# Altium footprint library con-subd.PCBLIB: 94 footprints (part 6 of 6)
Each footprint in its own frame and in the unit in brackets; x right, y up, seen from the top. Pads: shape width x height; smd on the part's side, far side on the other; paste and mask are expansions set on the pad; w line width, h text height; cw(c..) or ccw(c..) is an arc to the next point about the centre after c.
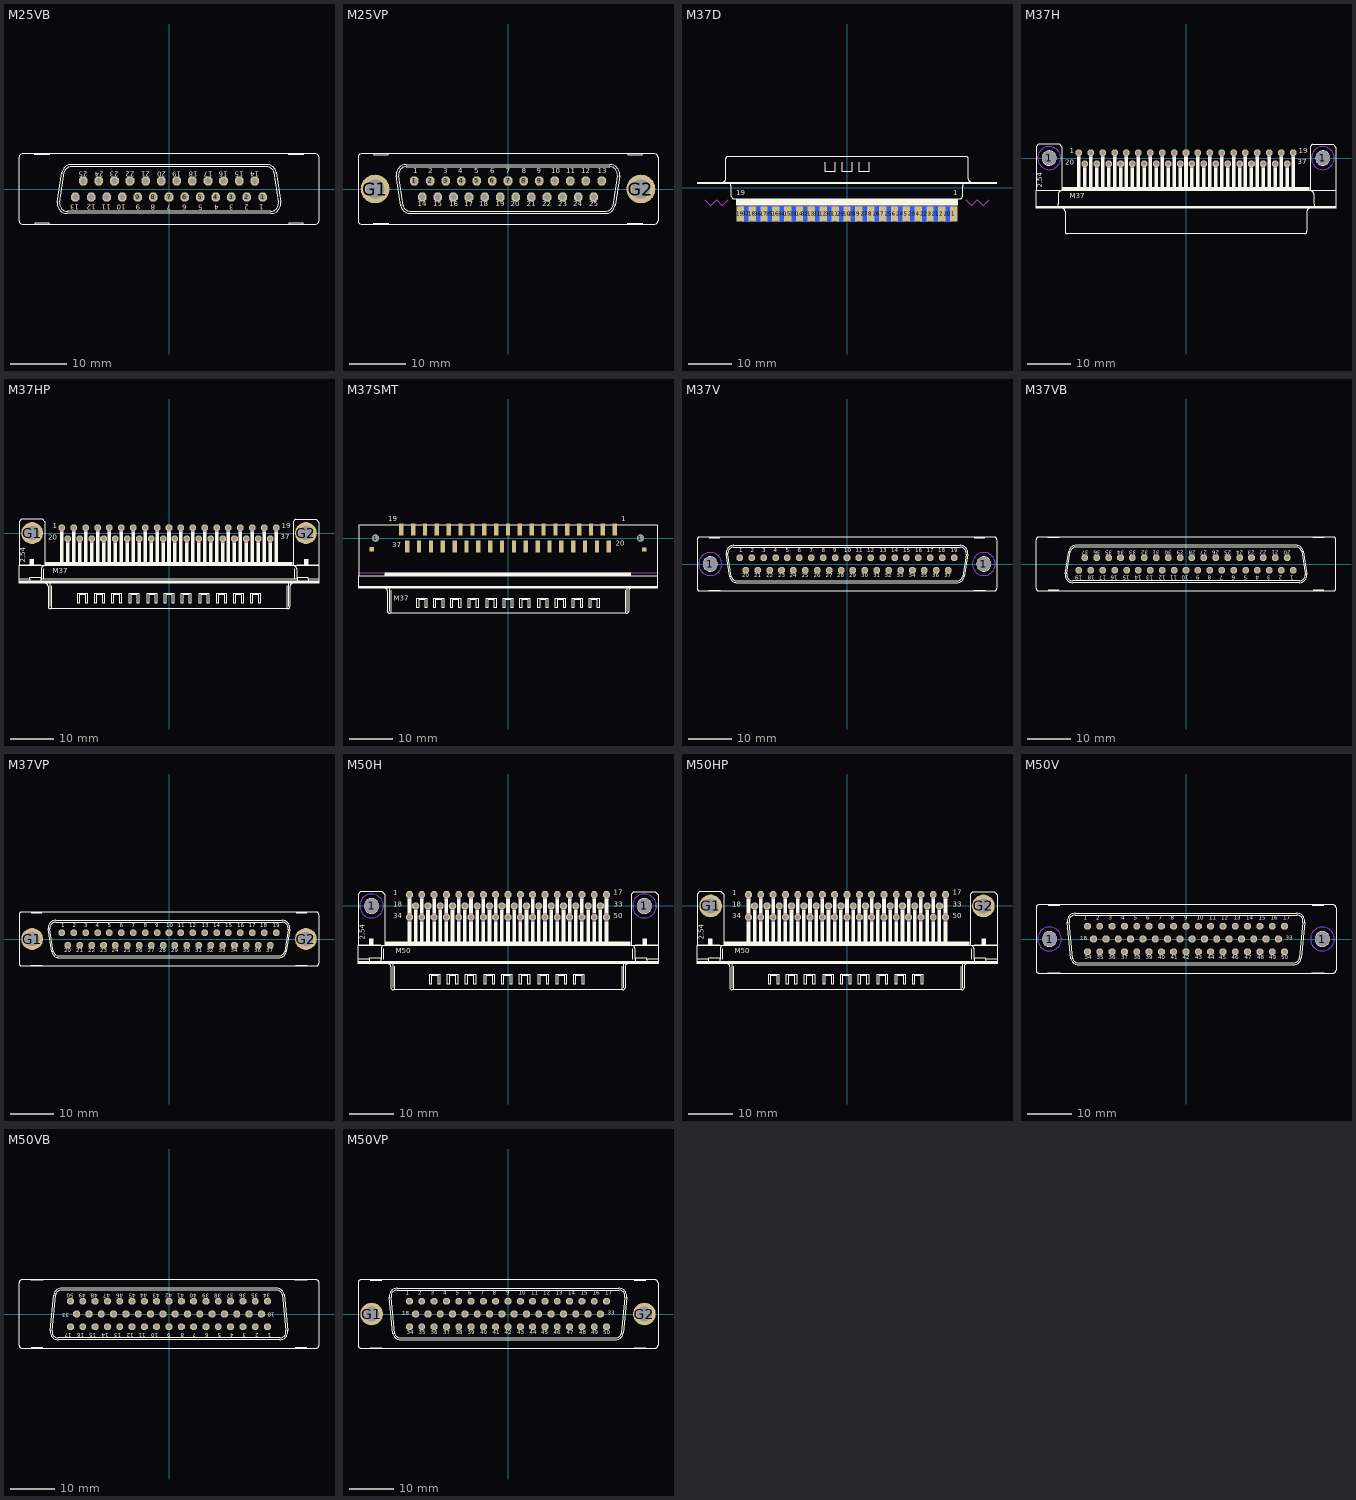
[diagram p5: the footprints below, top view; thin cyan lines are the x and y axes]

## M25VB [mil]
pads (25):
  oct 60x60 hole 40: 1(652,-56) 2(543,-56) 3(435,-56) 4(326,-56) 5(217,-56) 6(109,-56) 7(0,-56) 8(-109,-56) 9(-217,-56) 10(-326,-56) 11(-435,-56) 12(-543,-56) 13(-652,-56) 14(598,56) 15(489,56) 16(380,56) 17(272,56) 18(163,56) 19(54,56) 20(-54,56) 21(-163,56) 22(-272,56) 23(-380,56) 24(-489,56) 25(-598,56)
Top Overlay:
  lines w6: -777,-91 -747,113 ; -776.69,-88.67 ccw(c-710,-101.99) -710,-170 710,-170 ccw(c710,-102) 776.68,-88.67 ; -762,-91 -731,115 ; -761.79,-90.7 ccw(c-710,-101.99) -710,-155 710,-155 ccw(c710,-102) 761.97,-91.61 ; -747.89,105.7 cw(c-679.99,102) -680,170 680,170 cw(c680,102) 747.4,110.99 ; -731.52,114.37 cw(c-679.99,102) -680,155 680,155 cw(c680,101.99) 731.3,115.33 ; 731,116 762,-92 ; 746,116 777,-92 ; -935,-245 -1020,-245 cw(c-1020,-220) -1045,-220 -1045,220 cw(c-1020,220) -1020,245 -935,245 ; -935,-245 -935,-240 -835,-240 -835,-245 ; -935,-245 -835,-245 ; -935,245 -835,245 ; -935,245 -935,240 -835,240 -835,245 ; -835,-245 835,-245 ; -835,245 835,245 ; 835,-245 835,-240 935,-240 935,-245 ; 835,-245 935,-245 ; 835,245 935,245 ; 835,245 835,240 935,240 935,245 ; 935,-245 1020,-245 ccw(c1020,-220) 1045,-220 1045,220 ccw(c1020,220) 1020,245 935,245
  text "1" at 660,-95 h60.45
  text "2" at 555,-95 h60.45
  text "3" at 450,-95 h60.45
  text "4" at 345,-95 h60.45
  text "5" at 235,-95 h60.45
  text "6" at 125,-95 h60.45
  text "7" at 15,-95 h60.45
  text "8" at -95,-95 h60.45
  text "9" at -200,-95 h60.45
  text "10" at -300,-95 h60.45
  text "11" at -405,-95 h60.45
  text "12" at -510,-95 h60.45
  text "13" at -625,-95 h60.45
  text "14" at 630,135 h60.45
  text "15" at 520,135 h60.45
  text "16" at 410,135 h60.45
  text "17" at 305,135 h60.45
  text "18" at 200,135 h60.45
  text "19" at 85,135 h60.45
  text "20" at -20,135 h60.45
  text "21" at -130,135 h60.45
  text "22" at -240,135 h60.45
  text "23" at -350,135 h60.45
  text "24" at -455,135 h60.45
  text "25" at -565,135 h60.45
Mechanical 16:
  circle w16: c109,-56 r10
  circle w16: c163,56 r10
  circle w16: c217,-56 r10
  circle w16: c0,-56 r10
  circle w16: c54,56 r10
  circle w16: c-54,56 r10
  circle w16: c-109,-56 r10
  circle w16: c-217,-56 r10
  circle w16: c-163,56 r10
  circle w16: c-272,56 r10
  circle w16: c-326,-56 r10
  circle w16: c-380,56 r10
  circle w16: c-435,-56 r10
  circle w16: c-489,56 r10
  circle w16: c-543,-56 r10
  circle w16: c-652,-56 r10
  circle w16: c-598,56 r10
  circle w16: c326,-56 r10
  circle w16: c272,56 r10
  circle w16: c380,56 r10
  circle w16: c435,-56 r10
  circle w16: c543,-56 r10
  circle w16: c652,-56 r10
  circle w16: c489,56 r10
  circle w16: c598,56 r10

## M25VP [mil]
pads (27):
  oct 60x60 hole 40: 1(-652,56) 2(-543,56) 3(-435,56) 4(-326,56) 5(-217,56) 6(-109,56) 7(0,56) 8(109,56) 9(217,56) 10(326,56) 11(435,56) 12(543,56) 13(652,56) 14(-598,-56) 15(-489,-56) 16(-380,-56) 17(-272,-56) 18(-163,-56) 19(-54,-56) 20(54,-56) 21(163,-56) 22(272,-56) 23(380,-56) 24(489,-56) 25(598,-56)
  round 200 hole 130: G1(-926,0) G2(926,0)
Top Overlay:
  circle w6: c-926,-1 r65
  circle w6: c926,0 r65
  lines w6: -777,92 -746,-116 ; -776.68,88.67 cw(c-710,102) -710,170 710,170 cw(c710,101.99) 776.69,88.67 ; -762,92 -731,-116 ; -761.97,91.61 cw(c-710,102) -710,155 710,155 cw(c710,101.99) 761.79,90.7 ; -747.4,-110.99 ccw(c-680,-102) -680,-170 680,-170 ccw(c679.99,-102) 747.89,-105.7 ; -731.3,-115.33 ccw(c-680,-101.99) -680,-155 680,-155 ccw(c679.99,-102) 731.52,-114.37 ; 731,-115 762,91 ; 747,-113 777,91 ; -935,-245 -935,-240 -835,-240 -835,-245 ; -935,-245 -835,-245 ; -935,-245 -1020,-245 cw(c-1020,-220) -1045,-220 -1045,220 cw(c-1020,220) -1020,245 -935,245 ; -935,245 -935,240 -835,240 -835,245 ; -935,245 -835,245 ; -835,-245 835,-245 ; -835,245 835,245 ; 835,-245 835,-240 935,-240 935,-245 ; 835,-245 935,-245 ; 835,245 835,240 935,240 935,245 ; 835,245 935,245 ; 935,-245 1020,-245 ccw(c1020,-220) 1045,-220 1045,220 ccw(c1020,220) 1020,245 935,245
  text "1" at -660,95 h60.45
  text "2" at -555,95 h60.45
  text "3" at -450,95 h60.45
  text "4" at -345,95 h60.45
  text "5" at -235,95 h60.45
  text "6" at -125,95 h60.45
  text "7" at -15,95 h60.45
  text "8" at 95,95 h60.45
  text "9" at 200,95 h60.45
  text "10" at 300,95 h60.45
  text "11" at 405,95 h60.45
  text "12" at 510,95 h60.45
  text "13" at 625,95 h60.45
  text "14" at -630,-135 h60.45
  text "15" at -520,-135 h60.45
  text "16" at -410,-135 h60.45
  text "17" at -305,-135 h60.45
  text "18" at -200,-135 h60.45
  text "19" at -85,-135 h60.45
  text "20" at 20,-135 h60.45
  text "21" at 130,-135 h60.45
  text "22" at 240,-135 h60.45
  text "23" at 350,-135 h60.45
  text "24" at 455,-135 h60.45
  text "25" at 565,-135 h60.45
Mechanical 16:
  circle w16: c-109,56 r10
  circle w16: c-163,-56 r10
  circle w16: c-217,56 r10
  circle w16: c0,56 r10
  circle w16: c-54,-56 r10
  circle w16: c54,-56 r10
  circle w16: c109,56 r10
  circle w16: c217,56 r10
  circle w16: c163,-56 r10
  circle w16: c272,-56 r10
  circle w16: c326,56 r10
  circle w16: c380,-56 r10
  circle w16: c435,56 r10
  circle w16: c489,-56 r10
  circle w16: c543,56 r10
  circle w16: c652,56 r10
  circle w16: c598,-56 r10
  circle w16: c-326,56 r10
  circle w16: c-272,-56 r10
  circle w16: c-380,-56 r10
  circle w16: c-435,56 r10
  circle w16: c-543,56 r10
  circle w16: c-652,56 r10
  circle w16: c-489,-56 r10
  circle w16: c-598,-56 r10

## M37D [mil]
pads (37):
  rect 66.93x137.8 smd: 1(972.01,-237.99) 2(864.01,-237.98) 3(755.99,-237.98) 4(648.01,-237.98) 5(540,-237.99) 6(431.99,-237.98) 7(324.01,-237.98) 8(215.99,-237.98) 9(108.01,-237.98) 10(0,-237.99) 11(-108.01,-237.98) 12(-215.99,-237.98) 13(-324.01,-237.98) 14(-431.99,-237.98) 15(-540,-237.99) 16(-648.01,-237.98) 17(-755.99,-237.98) 18(-864.01,-237.98) 19(-972.01,-237.99)
  rect 66.93x137.8 smd far side: 20(918,-238) 21(810,-238) 22(702,-238) 23(594,-238) 24(486,-238) 25(378,-238) 26(270,-238) 27(162,-238) 28(54,-238) 29(-54,-238) 30(-162,-238) 31(-270,-238) 32(-378,-238) 33(-486,-238) 34(-594,-238) 35(-702,-238) 36(-810,-238) 37(-918,-238)
Top Overlay:
  rectangle: -1366.14,35.43 1366.14,55.12
  rectangle: -1011.81,-161.42 1011.81,-98.43
  lines w6: -1129.02,55.55 ccw(c-1129.02,80.55) -1104.02,80.55 -1104.02,265.55 cw(c-1084.02,265.55) -1084.02,285.55 1084.02,285.55 cw(c1084.02,265.55) 1104.02,265.55 1104.02,80.55 ccw(c1129.02,80.55) 1129.02,55.55 ; -1058,40 -1058,20 -1053,20 -1053,-75 ccw(c-1028,-75) -1028,-100 ; -1028.74,-100 1028.74,-100 ; -200,234.45 -200,144.45 -110,144.45 -110,234.45 ; -45,234.45 -45,144.45 45,144.45 45,234.45 ; 110,234.45 110,144.45 200,144.45 200,234.45 ; 1028,-100 ccw(c1028,-75) 1053,-75 1053,20 1058,20 1058,40
  text "1" at 966.74,-85.77 h77.5
  text "19" at -1007.49,-85.77 h77.5
Bottom Overlay:
  text "37" at -869.69,-24.61 h77.5
  text "20" at 962.8,-28.54 h77.5
Mechanical 13:
  lines w10: -1296,-108 -1242,-162 -1188,-108 -1134,-162 -1080,-108 ; 1080,-108 1134,-162 1188,-108 1242,-162 1296,-108
  text "Board" at -1298,-100 h77.5
  text "Board" at 1098,-100 h77.5
Mechanical 16:
  rectangle: 948.38,-258.27 995.62,-159.84
  rectangle: 840.38,-258.27 887.62,-159.84
  rectangle: 732.38,-258.27 779.62,-159.84
  rectangle: 624.38,-258.27 671.62,-159.84
  rectangle: 516.38,-258.27 563.62,-159.84
  rectangle: 408.38,-258.27 455.62,-159.84
  rectangle: 300.38,-258.27 347.62,-159.84
  rectangle: 192.38,-258.27 239.62,-159.84
  rectangle: 84.38,-258.27 131.62,-159.84
  rectangle: -23.62,-258.27 23.62,-159.84
  rectangle: -131.62,-258.27 -84.38,-159.84
  rectangle: -239.62,-258.27 -192.38,-159.84
  rectangle: -347.62,-258.27 -300.38,-159.84
  rectangle: -455.62,-258.27 -408.38,-159.84
  rectangle: -563.62,-258.27 -516.38,-159.84
  rectangle: -671.62,-258.27 -624.38,-159.84
  rectangle: -779.62,-258.27 -732.38,-159.84
  rectangle: -887.62,-258.27 -840.38,-159.84
  rectangle: -995.62,-258.27 -948.38,-159.84
  text "M37D" at -1002,181 h77.5
Mechanical 30:
  rectangle: 894.38,-258.27 941.62,-159.84
  rectangle: 786.38,-258.27 833.62,-159.84
  rectangle: 678.38,-258.27 725.62,-159.84
  rectangle: 570.38,-258.27 617.62,-159.84
  rectangle: 462.38,-258.27 509.62,-159.84
  rectangle: 354.38,-258.27 401.62,-159.84
  rectangle: 246.38,-258.27 293.62,-159.84
  rectangle: 138.38,-258.27 185.62,-159.84
  rectangle: 30.38,-258.27 77.62,-159.84
  rectangle: -77.62,-258.27 -30.38,-159.84
  rectangle: -185.62,-258.27 -138.38,-159.84
  rectangle: -293.62,-258.27 -246.38,-159.84
  rectangle: -401.62,-258.27 -354.38,-159.84
  rectangle: -509.62,-258.27 -462.38,-159.84
  rectangle: -617.62,-258.27 -570.38,-159.84
  rectangle: -725.62,-258.27 -678.38,-159.84
  rectangle: -833.62,-258.27 -786.38,-159.84
  rectangle: -941.62,-258.27 -894.38,-159.84

## M37H [mil]
pads (39):
  round 130 hole 130: 1(-1250,0) 1(1250,0)
  oct 60x60 hole 40: 1(-978,50) 2(-870,50) 3(-761,50) 4(-652,50) 5(-544,50) 6(-435,50) 7(-326,50) 8(-217,50) 9(-109,50) 10(0,50) 11(109,50) 12(217,50) 13(326,50) 14(435,50) 15(543,50) 16(652,50) 17(761,50) 18(869,50) 19(978,50) 20(-924,-50) 21(-815,-50) 22(-707,-50) 23(-598,-50) 24(-489,-50) 25(-380,-50) 26(-272,-50) 27(-163,-50) 28(-54,-50) 29(54,-50) 30(163,-50) 31(272,-50) 32(380,-50) 33(489,-50) 34(598,-50) 35(706,-50) 36(815,-50) 37(924,-50)
Bottom Layer keep-out:
  circle w0: c1250,0 r105
  circle w0: c-1250,0 r105
Top Overlay:
  circle w6: c1250,0 r65
  circle w6: c-1250,0 r65
  rectangle: -1125,-300 1125,-270
  rectangle: -1370,-460 1370,-440
  rectangle: -994,-269 -962,16
  rectangle: -940,-269 -908,-84
  rectangle: -886,-269 -854,16
  rectangle: -831,-269 -799,-84
  rectangle: -777,-269 -745,16
  rectangle: -723,-269 -691,-84
  rectangle: -668,-269 -636,16
  rectangle: -614,-269 -582,-84
  rectangle: -560,-270 -528,15
  rectangle: -505,-270 -473,-85
  rectangle: -451,-270 -419,15
  rectangle: -396,-270 -364,-85
  rectangle: -342,-270 -310,15
  rectangle: -288,-270 -256,-85
  rectangle: -233,-270 -201,15
  rectangle: -179,-270 -147,-85
  rectangle: -125,-270 -93,15
  rectangle: -70,-270 -38,-85
  rectangle: -16,-270 16,15
  rectangle: 38,-270 70,-85
  rectangle: 93,-270 125,15
  rectangle: 147,-270 179,-85
  rectangle: 201,-270 233,15
  rectangle: 256,-270 288,-85
  rectangle: 310,-270 342,15
  rectangle: 364,-270 396,-85
  rectangle: 419,-270 451,15
  rectangle: 473,-270 505,-85
  rectangle: 527,-270 559,15
  rectangle: 582,-270 614,-85
  rectangle: 636,-270 668,15
  rectangle: 690,-270 722,-85
  rectangle: 745,-270 777,15
  rectangle: 799,-270 831,-85
  rectangle: 853,-270 885,15
  rectangle: 908,-270 940,-85
  rectangle: 962,-270 994,15
  lines w6: -1170,-440 -1170,-420 -1165,-420 -1165,-325 cw(c-1140,-325) -1140,-300 ; -1130,-460 cw(c-1130,-485) -1105,-485 -1105,-670 ccw(c-1085,-670) -1085,-690 -1075,-690 1075,-690 1085,-690 ccw(c1085,-670) 1105,-670 1105,-485 cw(c1130,-485) 1130,-460 ; 1140,-300 cw(c1140,-325) 1165,-325 1165,-420 1170,-420 1170,-440 ; -1370,-300 -1370,-420 -1370,-440 -1370,-460 -1090,-460 1090,-460 1370,-460 1370,-440 1370,-420 1370,-300 ; -1370,-300 -1370,-295 -1370,105 -1350,125 -1155,125 -1135,105 -1135,-300 ; -1370,-300 -1170,-300 -1135,-300 ; -1135,-300 -1125,-300 ; -1125,-300 1125,-300 ; -1125,-300 -1125,-270 1125,-270 1125,-300 ; 1125,-300 1135,-300 ; 1135,-300 1170,-300 1370,-300 ; 1135,-300 1135,105 1155,125 1345,125 1370,100 1370,-295 1370,-300
  text "1" at -1060,25 h77.5
  text "19" at 1030,25 h77.5
  text "20" at -1105,-80 h77.5
  text "37" at 1020,-75 h77.5
  text "2,54" at -1295,-270 h77.5
  text "M37" at -1060,-385 h77.5
Mechanical 16:
  lines w32: -978,5 -978,45 ; -924,-94 -924,-54 ; -870,5 -870,45 ; -815,-94 -815,-54 ; -761,5 -761,45 ; -707,-94 -707,-54 ; -652,5 -652,45 ; -598,-95 -598,-55 ; -544,5 -544,45 ; -489,-95 -489,-55 ; -435,5 -435,45 ; -380,-95 -380,-55 ; -326,5 -326,45 ; -272,-95 -272,-55 ; -217,5 -217,45 ; -163,-95 -163,-55 ; -109,5 -109,45 ; -54,-95 -54,-55 ; 0,5 0,45 ; 54,-95 54,-55 ; 109,5 109,45 ; 163,-95 163,-55 ; 217,5 217,45 ; 272,-95 272,-55 ; 326,5 326,45 ; 380,-95 380,-55 ; 435,5 435,45 ; 489,-95 489,-55 ; 543,5 543,45 ; 598,-95 598,-55 ; 652,5 652,45 ; 706,-95 706,-55 ; 761,5 761,45 ; 815,-95 815,-55 ; 869,5 869,45 ; 924,-95 924,-55 ; 978,5 978,45
Via Holes:
  circle w0: c1250,0 r105
  circle w0: c-1250,0 r105

## M37HP [mil]
pads (39):
  oct 60x60 hole 40: 1(-978,50) 2(-870,50) 3(-761,50) 4(-652,50) 5(-544,50) 6(-435,50) 7(-326,50) 8(-217,50) 9(-109,50) 10(0,50) 11(109,50) 12(217,50) 13(326,50) 14(435,50) 15(543,50) 16(652,50) 17(761,50) 18(869,50) 19(978,50) 20(-924,-50) 21(-815,-50) 22(-707,-50) 23(-598,-50) 24(-489,-50) 25(-380,-50) 26(-272,-50) 27(-163,-50) 28(-54,-50) 29(54,-50) 30(163,-50) 31(272,-50) 32(380,-50) 33(489,-50) 34(598,-50) 35(706,-50) 36(815,-50) 37(924,-50)
  round 200 hole 130: G1(-1250,0) G2(1250,0)
Top Overlay:
  drawing of 207 lines, arcs and shapes, not listed
  text "1" at -1060,25 h77.5
  text "19" at 1030,25 h77.5
  text "20" at -1105,-80 h77.5
  text "37" at 1020,-75 h77.5
  text "2,54" at -1295,-270 h77.5
  text "M37" at -1060,-385 h77.5
Mechanical 16:
  lines w32: -978,5 -978,45 ; -924,-94 -924,-54 ; -870,5 -870,45 ; -815,-94 -815,-54 ; -761,6 -761,46 ; -707,-94 -707,-54 ; -652,5 -652,45 ; -598,-95 -598,-55 ; -544,5 -544,45 ; -489,-95 -489,-55 ; -435,5 -435,45 ; -380,-95 -380,-55 ; -326,5 -326,45 ; -272,-95 -272,-55 ; -217,5 -217,45 ; -163,-95 -163,-55 ; -109,5 -109,45 ; -54,-95 -54,-55 ; 0,5 0,45 ; 54,-95 54,-55 ; 109,5 109,45 ; 163,-95 163,-55 ; 217,5 217,45 ; 272,-95 272,-55 ; 326,5 326,45 ; 380,-95 380,-55 ; 435,5 435,45 ; 489,-95 489,-55 ; 543,5 543,45 ; 598,-95 598,-55 ; 652,5 652,45 ; 706,-95 706,-55 ; 761,5 761,45 ; 815,-95 815,-55 ; 869,5 869,45 ; 924,-95 924,-55 ; 978,5 978,45

## M37SMT [mm]
pads (41):
  round 1.7 hole 1.7: 1(-30.85,0) 1(30.85,0)
  rect 1x2.8 smd: 1(24.84,1.975) 2(22.08,1.975) 3(19.32,1.975) 4(16.56,1.975) 5(13.8,1.975) 6(11.04,1.975) 7(8.28,1.975) 8(5.52,1.975) 9(2.76,1.975) 10(0,1.975) 11(-2.76,1.975) 12(-5.52,1.975) 13(-8.28,1.975) 14(-11.04,1.975) 15(-13.8,1.975) 16(-16.56,1.975) 17(-19.32,1.975) 18(-22.08,1.975) 19(-24.84,1.975) 20(23.46,-1.975) 21(20.7,-1.975) 22(17.94,-1.975) 23(15.18,-1.975) 24(12.42,-1.975) 25(9.66,-1.975) 26(6.9,-1.975) 27(4.14,-1.975) 28(1.38,-1.975) 29(-1.38,-1.975) 30(-4.14,-1.975) 31(-6.9,-1.975) 32(-9.66,-1.975) 33(-12.42,-1.975) 34(-15.18,-1.975) 35(-17.94,-1.975) 36(-20.7,-1.975) 37(-23.46,-1.975)
  rect 1x1 smd: S@1(31.725,-2.65) S@2(-31.725,-2.625)
Top Layer:
  region: 0,0 0.254,0 0.254,0.254 0,0.254
  region: 0,0 0.254,0 0.254,0.254 0,0.254
Top Overlay:
  rectangle: -28.575,-8.92 28.575,-8.158
  rectangle: -34.798,-11.684 34.798,-11.176
  lines w0.152: -28.702,-11.684 cw(c-28.702,-12.319) -28.067,-12.319 -28.067,-17.018 ccw(c-27.559,-17.018) -27.559,-17.526 -27.305,-17.526 ; -27.686,-17.018 -27.686,-11.684 ; -27.305,-12.192 -27.305,-17.526 ; 27.305,-12.192 27.305,-17.526 ; 27.686,-17.018 27.686,-11.684 ; 28.702,-11.684 ccw(c28.702,-12.319) 28.067,-12.319 28.067,-17.018 cw(c27.559,-17.018) 27.559,-17.526 27.305,-17.526 ; -34.798,-8.92 -34.798,-11.684 -27.686,-11.684 ; -34.798,-8.92 -34.75,-8.793 -34.75,3.016 34.75,3.016 34.75,-8.793 34.798,-8.92 ; -34.798,-8.92 -28.575,-8.92 ; -28.575,-8.92 28.575,-8.92 ; -28.575,-8.92 -28.575,-8.158 28.575,-8.158 28.575,-8.92 ; -27.686,-11.684 27.686,-11.684 ; -27.305,-17.526 27.305,-17.526 ; 27.686,-11.684 34.798,-11.684 34.798,-8.92 ; 28.575,-8.92 34.798,-8.92 ; -21.209,-16.256 -20.828,-16.256 -20.828,-14.351 -19.304,-14.351 -19.304,-16.256 -18.923,-16.256 -18.923,-13.97 -21.209,-13.97 -21.209,-16.256 ; -17.272,-16.256 -16.891,-16.256 -16.891,-14.351 -15.367,-14.351 -15.367,-16.256 -14.986,-16.256 -14.986,-13.97 -17.272,-13.97 -17.272,-16.256 ; -13.335,-16.256 -12.954,-16.256 -12.954,-14.351 -11.43,-14.351 -11.43,-16.256 -11.049,-16.256 -11.049,-13.97 -13.335,-13.97 -13.335,-16.256 ; -9.271,-16.256 -8.89,-16.256 -8.89,-14.351 -7.366,-14.351 -7.366,-16.256 -6.985,-16.256 -6.985,-13.97 -9.271,-13.97 -9.271,-16.256 ; -5.08,-16.256 -4.699,-16.256 -4.699,-14.351 -3.175,-14.351 -3.175,-16.256 -2.794,-16.256 -2.794,-13.97 -5.08,-13.97 -5.08,-16.256 ; -1.143,-16.256 -0.762,-16.256 -0.762,-14.351 0.762,-14.351 0.762,-16.256 1.143,-16.256 1.143,-13.97 -1.143,-13.97 -1.143,-16.256 ; 2.794,-16.256 3.175,-16.256 3.175,-14.351 4.699,-14.351 4.699,-16.256 5.08,-16.256 5.08,-13.97 2.794,-13.97 2.794,-16.256 ; 6.985,-16.256 7.366,-16.256 7.366,-14.351 8.89,-14.351 8.89,-16.256 9.271,-16.256 9.271,-13.97 6.985,-13.97 6.985,-16.256 ; 11.049,-16.256 11.43,-16.256 11.43,-14.351 12.954,-14.351 12.954,-16.256 13.335,-16.256 13.335,-13.97 11.049,-13.97 11.049,-16.256 ; 14.986,-16.256 15.367,-16.256 15.367,-14.351 16.891,-14.351 16.891,-16.256 17.272,-16.256 17.272,-13.97 14.986,-13.97 14.986,-16.256 ; 18.923,-16.256 19.304,-16.256 19.304,-14.351 20.828,-14.351 20.828,-16.256 21.209,-16.256 21.209,-13.97 18.923,-13.97 18.923,-16.256
  text "19" at -27.94,3.492 h1.97
  text "1" at 26.352,3.492 h1.97
  text "37" at -26.987,-2.54 h1.97
  text "20" at 25.082,-2.222 h1.97
  text "M37" at -26.599,-15.104 h1.97
Mechanical 1:
  lines w0: -34.928,-8.1 34.928,-8.1

## M37V [mil]
pads (39):
  round 130 hole 130: 1(-1250,0) 1(1250,0)
  oct 60x60 hole 40: 1(-978,56) 2(-870,56) 3(-761,56) 4(-652,56) 5(-544,56) 6(-435,56) 7(-326,56) 8(-217,56) 9(-109,56) 10(0,56) 11(109,56) 12(217,56) 13(326,56) 14(435,56) 15(543,56) 16(652,56) 17(761,56) 18(869,56) 19(978,56) 20(-924,-56) 21(-815,-56) 22(-707,-56) 23(-598,-56) 24(-489,-56) 25(-380,-56) 26(-272,-56) 27(-163,-56) 28(-54,-56) 29(54,-56) 30(163,-56) 31(272,-56) 32(380,-56) 33(489,-56) 34(598,-56) 35(706,-56) 36(815,-56) 37(924,-56)
Bottom Layer keep-out:
  circle w0: c1250,0 r105
  circle w0: c-1250,0 r105
Top Overlay:
  circle w6: c-1250,0 r65
  circle w6: c1250,0 r65
  lines w6: -1102,92 -1071,-116 ; -1101.68,88.67 cw(c-1035,102) -1035,170 1035,170 cw(c1035,101.99) 1101.69,88.67 ; -1087,92 -1056,-116 ; -1086.97,91.61 cw(c-1035,102) -1035,155 1035,155 cw(c1035,101.99) 1086.79,90.7 ; -1072.4,-110.99 ccw(c-1005,-102) -1005,-170 1005,-170 ccw(c1004.99,-102) 1072.89,-105.7 ; -1056.3,-115.33 ccw(c-1005,-101.99) -1005,-155 1005,-155 ccw(c1004.99,-102) 1056.52,-114.37 ; 1056,-115 1087,91 ; 1072,-113 1102,91 ; -1260,-245 -1260,-240 -1160,-240 -1160,-245 ; -1260,-245 -1160,-245 ; -1260,-245 -1345,-245 cw(c-1345,-220) -1370,-220 -1370,220 cw(c-1345,220) -1345,245 -1260,245 ; -1260,245 -1260,240 -1160,240 -1160,245 ; -1260,245 -1160,245 ; -1160,-245 1160,-245 ; -1160,245 1160,245 ; 1160,-245 1160,-240 1260,-240 1260,-245 ; 1160,-245 1260,-245 ; 1160,245 1160,240 1260,240 1260,245 ; 1160,245 1260,245 ; 1260,-245 1345,-245 ccw(c1345,-220) 1370,-220 1370,220 ccw(c1345,220) 1345,245 1260,245
  text "1" at -986,95 h60.45
  text "2" at -881,95 h60.45
  text "3" at -776,95 h60.45
  text "4" at -671,95 h60.45
  text "5" at -561,95 h60.45
  text "6" at -451,95 h60.45
  text "7" at -341,95 h60.45
  text "8" at -231,95 h60.45
  text "9" at -126,95 h60.45
  text "10" at -26,95 h60.45
  text "11" at 79,95 h60.45
  text "12" at 184,95 h60.45
  text "13" at 299,95 h60.45
  text "14" at 404,95 h60.45
  text "15" at 514,95 h60.45
  text "16" at 624,95 h60.45
  text "17" at 729,95 h60.45
  text "18" at 834,95 h60.45
  text "19" at 949,95 h60.45
  text "20" at -958,-135 h60.45
  text "21" at -848,-135 h60.45
  text "22" at -738,-135 h60.45
  text "23" at -628,-135 h60.45
  text "24" at -523,-135 h60.45
  text "25" at -413,-135 h60.45
  text "26" at -305,-135 h60.45
  text "27" at -195,-135 h60.45
  text "28" at -90,-135 h60.45
  text "29" at 20,-135 h60.45
  text "30" at 130,-135 h60.45
  text "31" at 240,-135 h60.45
  text "32" at 345,-135 h60.45
  text "33" at 455,-135 h60.45
  text "34" at 565,-135 h60.45
  text "35" at 675,-135 h60.45
  text "36" at 780,-135 h60.45
  text "37" at 890,-135 h60.45
Mechanical 16:
  circle w16: c-109,56 r10
  circle w16: c-163,-56 r10
  circle w16: c-217,56 r10
  circle w16: c0,56 r10
  circle w16: c-54,-56 r10
  circle w16: c54,-56 r10
  circle w16: c109,56 r10
  circle w16: c217,56 r10
  circle w16: c163,-56 r10
  circle w16: c272,-56 r10
  circle w16: c326,56 r10
  circle w16: c380,-56 r10
  circle w16: c435,56 r10
  circle w16: c489,-56 r10
  circle w16: c543,56 r10
  circle w16: c652,56 r10
  circle w16: c598,-56 r10
  circle w16: c-326,56 r10
  circle w16: c-272,-56 r10
  circle w16: c-380,-56 r10
  circle w16: c-435,56 r10
  circle w16: c-543,56 r10
  circle w16: c-652,56 r10
  circle w16: c-489,-56 r10
  circle w16: c-598,-56 r10
  circle w16: c761,56 r10
  circle w16: c869,56 r10
  circle w16: c978,56 r10
  circle w16: c706,-56 r10
  circle w16: c815,-56 r10
  circle w16: c924,-56 r10
  circle w16: c-761,56 r10
  circle w16: c-869,56 r10
  circle w16: c-978,56 r10
  circle w16: c-706,-56 r10
  circle w16: c-815,-56 r10
  circle w16: c-924,-56 r10
Via Holes:
  circle w0: c1250,0 r105
  circle w0: c-1250,0 r105

## M37VB [mil]
pads (37):
  oct 60x60 hole 40: 1(978,-56) 2(870,-56) 3(761,-56) 4(652,-56) 5(544,-56) 6(435,-56) 7(326,-56) 8(217,-56) 9(109,-56) 10(0,-56) 11(-109,-56) 12(-217,-56) 13(-326,-56) 14(-435,-56) 15(-543,-56) 16(-652,-56) 17(-761,-56) 18(-869,-56) 19(-978,-56) 20(924,56) 21(815,56) 22(707,56) 23(598,56) 24(489,56) 25(380,56) 26(272,56) 27(163,56) 28(54,56) 29(-54,56) 30(-163,56) 31(-272,56) 32(-380,56) 33(-489,56) 34(-598,56) 35(-706,56) 36(-815,56) 37(-924,56)
Top Overlay:
  lines w6: -1102,-91 -1072,113 ; -1101.69,-88.67 ccw(c-1035,-101.99) -1035,-170 1035,-170 ccw(c1035,-102) 1101.68,-88.67 ; -1087,-91 -1056,115 ; -1086.79,-90.7 ccw(c-1035,-101.99) -1035,-155 1035,-155 ccw(c1035,-102) 1086.97,-91.61 ; -1072.89,105.7 cw(c-1004.99,102) -1005,170 1005,170 cw(c1005,102) 1072.4,110.99 ; -1056.52,114.37 cw(c-1004.99,102) -1005,155 1005,155 cw(c1005,101.99) 1056.3,115.33 ; 1056,116 1087,-92 ; 1071,116 1102,-92 ; -1260,-245 -1345,-245 cw(c-1345,-220) -1370,-220 -1370,220 cw(c-1345,220) -1345,245 -1260,245 ; -1260,-245 -1260,-240 -1160,-240 -1160,-245 ; -1260,-245 -1160,-245 ; -1260,245 -1160,245 ; -1260,245 -1260,240 -1160,240 -1160,245 ; -1160,-245 1160,-245 ; -1160,245 1160,245 ; 1160,-245 1160,-240 1260,-240 1260,-245 ; 1160,-245 1260,-245 ; 1160,245 1260,245 ; 1160,245 1160,240 1260,240 1260,245 ; 1260,-245 1345,-245 ccw(c1345,-220) 1370,-220 1370,220 ccw(c1345,220) 1345,245 1260,245
  text "1" at 986,-95 h60.45
  text "2" at 881,-95 h60.45
  text "3" at 776,-95 h60.45
  text "4" at 671,-95 h60.45
  text "5" at 561,-95 h60.45
  text "6" at 451,-95 h60.45
  text "7" at 341,-95 h60.45
  text "8" at 231,-95 h60.45
  text "9" at 126,-95 h60.45
  text "10" at 26,-95 h60.45
  text "11" at -79,-95 h60.45
  text "12" at -184,-95 h60.45
  text "13" at -299,-95 h60.45
  text "14" at -404,-95 h60.45
  text "15" at -514,-95 h60.45
  text "16" at -624,-95 h60.45
  text "17" at -729,-95 h60.45
  text "18" at -834,-95 h60.45
  text "19" at -949,-95 h60.45
  text "20" at 958,135 h60.45
  text "21" at 848,135 h60.45
  text "22" at 738,135 h60.45
  text "23" at 628,135 h60.45
  text "24" at 523,135 h60.45
  text "25" at 413,135 h60.45
  text "26" at 305,135 h60.45
  text "27" at 195,135 h60.45
  text "28" at 90,135 h60.45
  text "29" at -20,135 h60.45
  text "30" at -130,135 h60.45
  text "31" at -240,135 h60.45
  text "32" at -345,135 h60.45
  text "33" at -455,135 h60.45
  text "34" at -565,135 h60.45
  text "35" at -675,135 h60.45
  text "36" at -780,135 h60.45
  text "37" at -890,135 h60.45
Mechanical 16:
  circle w16: c109,-56 r10
  circle w16: c163,56 r10
  circle w16: c217,-56 r10
  circle w16: c0,-56 r10
  circle w16: c54,56 r10
  circle w16: c-54,56 r10
  circle w16: c-109,-56 r10
  circle w16: c-217,-56 r10
  circle w16: c-163,56 r10
  circle w16: c-272,56 r10
  circle w16: c-326,-56 r10
  circle w16: c-380,56 r10
  circle w16: c-435,-56 r10
  circle w16: c-489,56 r10
  circle w16: c-543,-56 r10
  circle w16: c-652,-56 r10
  circle w16: c-598,56 r10
  circle w16: c326,-56 r10
  circle w16: c272,56 r10
  circle w16: c380,56 r10
  circle w16: c435,-56 r10
  circle w16: c543,-56 r10
  circle w16: c652,-56 r10
  circle w16: c489,56 r10
  circle w16: c598,56 r10
  circle w16: c-761,-56 r10
  circle w16: c-869,-56 r10
  circle w16: c-978,-56 r10
  circle w16: c-706,56 r10
  circle w16: c-815,56 r10
  circle w16: c-924,56 r10
  circle w16: c761,-56 r10
  circle w16: c869,-56 r10
  circle w16: c978,-56 r10
  circle w16: c706,56 r10
  circle w16: c815,56 r10
  circle w16: c924,56 r10

## M37VP [mil]
pads (39):
  oct 60x60 hole 40: 1(-978,56) 2(-870,56) 3(-761,56) 4(-652,56) 5(-544,56) 6(-435,56) 7(-326,56) 8(-217,56) 9(-109,56) 10(0,56) 11(109,56) 12(217,56) 13(326,56) 14(435,56) 15(543,56) 16(652,56) 17(761,56) 18(869,56) 19(978,56) 20(-924,-56) 21(-815,-56) 22(-707,-56) 23(-598,-56) 24(-489,-56) 25(-380,-56) 26(-272,-56) 27(-163,-56) 28(-54,-56) 29(54,-56) 30(163,-56) 31(272,-56) 32(380,-56) 33(489,-56) 34(598,-56) 35(706,-56) 36(815,-56) 37(924,-56)
  round 200 hole 130: G1(-1250,0) G2(1250,0)
Top Overlay:
  circle w6: c-1250,0 r65
  circle w6: c1250,0 r65
  lines w6: -1102,92 -1071,-116 ; -1101.68,88.67 cw(c-1035,102) -1035,170 1035,170 cw(c1035,101.99) 1101.69,88.67 ; -1087,92 -1056,-116 ; -1086.97,91.61 cw(c-1035,102) -1035,155 1035,155 cw(c1035,101.99) 1086.79,90.7 ; -1072.4,-110.99 ccw(c-1005,-102) -1005,-170 1005,-170 ccw(c1004.99,-102) 1072.89,-105.7 ; -1056.3,-115.33 ccw(c-1005,-101.99) -1005,-155 1005,-155 ccw(c1004.99,-102) 1056.52,-114.37 ; 1056,-115 1087,91 ; 1072,-113 1102,91 ; -1260,-245 -1260,-240 -1160,-240 -1160,-245 ; -1260,-245 -1160,-245 ; -1260,-245 -1345,-245 cw(c-1345,-220) -1370,-220 -1370,220 cw(c-1345,220) -1345,245 -1260,245 ; -1260,245 -1260,240 -1160,240 -1160,245 ; -1260,245 -1160,245 ; -1160,-245 1160,-245 ; -1160,245 1160,245 ; 1160,-245 1160,-240 1260,-240 1260,-245 ; 1160,-245 1260,-245 ; 1160,245 1160,240 1260,240 1260,245 ; 1160,245 1260,245 ; 1260,-245 1345,-245 ccw(c1345,-220) 1370,-220 1370,220 ccw(c1345,220) 1345,245 1260,245
  text "1" at -986,95 h60.45
  text "2" at -881,95 h60.45
  text "3" at -776,95 h60.45
  text "4" at -671,95 h60.45
  text "5" at -561,95 h60.45
  text "6" at -451,95 h60.45
  text "7" at -341,95 h60.45
  text "8" at -231,95 h60.45
  text "9" at -126,95 h60.45
  text "10" at -26,95 h60.45
  text "11" at 79,95 h60.45
  text "12" at 184,95 h60.45
  text "13" at 299,95 h60.45
  text "14" at 404,95 h60.45
  text "15" at 514,95 h60.45
  text "16" at 624,95 h60.45
  text "17" at 729,95 h60.45
  text "18" at 834,95 h60.45
  text "19" at 949,95 h60.45
  text "20" at -958,-135 h60.45
  text "21" at -848,-135 h60.45
  text "22" at -738,-135 h60.45
  text "23" at -628,-135 h60.45
  text "24" at -523,-135 h60.45
  text "25" at -413,-135 h60.45
  text "26" at -305,-135 h60.45
  text "27" at -195,-135 h60.45
  text "28" at -90,-135 h60.45
  text "29" at 20,-135 h60.45
  text "30" at 130,-135 h60.45
  text "31" at 240,-135 h60.45
  text "32" at 345,-135 h60.45
  text "33" at 455,-135 h60.45
  text "34" at 565,-135 h60.45
  text "35" at 675,-135 h60.45
  text "36" at 780,-135 h60.45
  text "37" at 890,-135 h60.45
Mechanical 16:
  circle w16: c-109,56 r10
  circle w16: c-163,-56 r10
  circle w16: c-217,56 r10
  circle w16: c0,56 r10
  circle w16: c-54,-56 r10
  circle w16: c54,-56 r10
  circle w16: c109,56 r10
  circle w16: c217,56 r10
  circle w16: c163,-56 r10
  circle w16: c272,-56 r10
  circle w16: c326,56 r10
  circle w16: c380,-56 r10
  circle w16: c435,56 r10
  circle w16: c489,-56 r10
  circle w16: c543,56 r10
  circle w16: c652,56 r10
  circle w16: c598,-56 r10
  circle w16: c-326,56 r10
  circle w16: c-272,-56 r10
  circle w16: c-380,-56 r10
  circle w16: c-435,56 r10
  circle w16: c-543,56 r10
  circle w16: c-652,56 r10
  circle w16: c-489,-56 r10
  circle w16: c-598,-56 r10
  circle w16: c761,56 r10
  circle w16: c869,56 r10
  circle w16: c978,56 r10
  circle w16: c706,-56 r10
  circle w16: c815,-56 r10
  circle w16: c924,-56 r10
  circle w16: c-761,56 r10
  circle w16: c-869,56 r10
  circle w16: c-978,56 r10
  circle w16: c-706,-56 r10
  circle w16: c-815,-56 r10
  circle w16: c-924,-56 r10

## M50H [mil]
pads (52):
  round 130 hole 130: 1(-1203,0) 1(1203,0)
  oct 60x60 hole 40: 1(-869,100) 2(-761,100) 3(-652,100) 4(-543,100) 5(-435,100) 6(-326,100) 7(-217,100) 8(-109,100) 9(0,100) 10(109,100) 11(217,100) 12(326,100) 13(435,100) 14(543,100) 15(652,100) 16(761,100) 17(869,100) 18(-815,0) 19(-706,0) 20(-598,0) 21(-489,0) 22(-380,0) 23(-271,0) 24(-163,0) 25(-54,0) 26(55,0) 27(163,0) 28(272,0) 29(381,0) 30(489,0) 31(598,0) 32(707,0) 33(815,0) 34(-869,-100) 35(-761,-100) 36(-652,-100) 37(-543,-100) 38(-435,-100) 39(-326,-100) 40(-217,-100) 41(-109,-100) 42(0,-100) 43(109,-100) 44(217,-100) 45(326,-100) 46(435,-100) 47(543,-100) 48(652,-100) 49(761,-100) 50(869,-100)
Bottom Layer keep-out:
  circle w0: c1203,0 r105
  circle w0: c-1203,0 r105
Top Overlay:
  drawing of 201 lines, arcs and shapes, not listed
  text "2,54" at -1248,-300 h77.5
  text "1" at -1013,75 h77.5
  text "17" at 933,80 h77.5
  text "18" at -1013,-25 h77.5
  text "33" at 933,-25 h77.5
  text "50" at 933,-125 h77.5
  text "34" at -1013,-125 h77.5
  text "M50" at -988,-435 h77.5
Mechanical 16:
  lines w32: -869,-130 -869,-70 ; -869,60 -869,100 ; -815,-40 -815,0 ; -761,-130 -761,-70 ; -761,60 -761,100 ; -706,-40 -706,0 ; -652,-130 -652,-70 ; -652,60 -652,100 ; -598,-40 -598,0 ; -543,-130 -543,-70 ; -543,60 -543,100 ; -489,-40 -489,0 ; -435,-130 -435,-70 ; -435,60 -435,100 ; -380,-40 -380,0 ; -326,-130 -326,-70 ; -326,60 -326,100 ; -272,-40 -272,0 ; -217,-130 -217,-70 ; -217,60 -217,100 ; -163,-40 -163,0 ; -109,-129 -109,-69 ; -109,60 -109,100 ; -54,-40 -54,0 ; 0,-130 0,-70 ; 0,60 0,100 ; 55,-40 55,0 ; 109,-130 109,-70 ; 109,60 109,100 ; 163,-40 163,0 ; 217,-130 217,-70 ; 217,60 217,100 ; 272,-40 272,0 ; 326,-130 326,-70 ; 326,60 326,100 ; 381,-40 381,0 ; 435,-130 435,-70 ; 435,60 435,100 ; 489,-40 489,0 ; 543,-130 543,-70 ; 543,60 543,100 ; 598,-40 598,0 ; 652,-130 652,-70 ; 652,60 652,100 ; 707,-40 707,0 ; 761,-130 761,-70 ; 761,60 761,100 ; 815,-40 815,0 ; 869,-130 869,-70 ; 869,60 869,100
Via Holes:
  circle w0: c1203,0 r105
  circle w0: c-1203,0 r105

## M50HP [mil]
pads (52):
  oct 60x60 hole 40: 1(-869,100) 2(-761,100) 3(-652,100) 4(-543,100) 5(-435,100) 6(-326,100) 7(-217,100) 8(-109,100) 9(0,100) 10(109,100) 11(217,100) 12(326,100) 13(435,100) 14(543,100) 15(652,100) 16(761,100) 17(869,100) 18(-815,0) 19(-706,0) 20(-598,0) 21(-489,0) 22(-380,0) 23(-271,0) 24(-163,0) 25(-54,0) 26(55,0) 27(163,0) 28(272,0) 29(381,0) 30(489,0) 31(598,0) 32(707,0) 33(815,0) 34(-869,-100) 35(-761,-100) 36(-652,-100) 37(-543,-100) 38(-435,-100) 39(-326,-100) 40(-217,-100) 41(-109,-100) 42(0,-100) 43(109,-100) 44(217,-100) 45(326,-100) 46(435,-100) 47(543,-100) 48(652,-100) 49(761,-100) 50(869,-100)
  round 200 hole 130: G1(-1203,0) G2(1203,0)
Top Overlay:
  drawing of 201 lines, arcs and shapes, not listed
  text "2,54" at -1248,-300 h77.5
  text "1" at -1013,75 h77.5
  text "18" at -1013,-25 h77.5
  text "34" at -1013,-125 h77.5
  text "17" at 933,80 h77.5
  text "33" at 933,-25 h77.5
  text "50" at 933,-125 h77.5
  text "M50" at -988,-435 h77.5
Mechanical 16:
  lines w32: -869,-130 -869,-70 ; -869,60 -869,100 ; -815,-40 -815,0 ; -761,-130 -761,-70 ; -761,60 -761,100 ; -706,-40 -706,0 ; -652,-130 -652,-70 ; -652,60 -652,100 ; -598,-40 -598,0 ; -543,-130 -543,-70 ; -543,60 -543,100 ; -489,-40 -489,0 ; -435,-130 -435,-70 ; -435,60 -435,100 ; -380,-40 -380,0 ; -326,-130 -326,-70 ; -326,60 -326,100 ; -272,-40 -272,0 ; -217,-130 -217,-70 ; -217,60 -217,100 ; -163,-40 -163,0 ; -109,-129 -109,-69 ; -109,60 -109,100 ; -54,-40 -54,0 ; 0,-130 0,-70 ; 0,60 0,100 ; 55,-40 55,0 ; 109,-130 109,-70 ; 109,60 109,100 ; 163,-40 163,0 ; 217,-130 217,-70 ; 217,60 217,100 ; 272,-40 272,0 ; 326,-130 326,-70 ; 326,60 326,100 ; 381,-40 381,0 ; 435,-130 435,-70 ; 435,60 435,100 ; 489,-40 489,0 ; 543,-130 543,-70 ; 543,60 543,100 ; 598,-40 598,0 ; 652,-130 652,-70 ; 652,60 652,100 ; 707,-40 707,0 ; 761,-130 761,-70 ; 761,60 761,100 ; 815,-40 815,0 ; 869,-130 869,-70 ; 869,60 869,100

## M50V [mil]
pads (52):
  round 130 hole 130: 1(-1203,0) 1(1203,0)
  oct 60x60 hole 40: 1(-869,112) 2(-761,112) 3(-652,112) 4(-543,112) 5(-435,112) 6(-326,112) 7(-217,112) 8(-109,112) 9(0,112) 10(109,112) 11(217,112) 12(326,112) 13(435,112) 14(543,112) 15(652,112) 16(761,112) 17(869,112) 18(-815,0) 19(-706,0) 20(-598,0) 21(-489,0) 22(-380,0) 23(-272,0) 24(-163,0) 25(-54,0) 26(54,0) 27(163,0) 28(272,0) 29(380,0) 30(489,0) 31(598,0) 32(706,0) 33(815,0) 34(-869,-112) 35(-761,-112) 36(-652,-112) 37(-543,-112) 38(-435,-112) 39(-326,-112) 40(-217,-112) 41(-109,-112) 42(0,-112) 43(109,-112) 44(217,-112) 45(326,-112) 46(435,-112) 47(543,-112) 48(652,-112) 49(761,-112) 50(869,-112)
Bottom Layer keep-out:
  circle w0: c1203,0 r105
  circle w0: c-1203,0 r105
Top Overlay:
  circle w6: c-1203,0 r65
  circle w6: c1203,0 r65
  lines w6: -1046,148 -1015,-172 ; -1045.68,144.67 cw(c-979,158) -979,226 979,226 cw(c979,157.99) 1045.69,144.67 ; -1031,148 -1000,-172 ; -1030.97,147.61 cw(c-979,158) -979,211 979,211 cw(c979,157.99) 1030.79,146.7 ; -1016.4,-166.99 ccw(c-949,-158) -949,-226 949,-226 ccw(c948.99,-158) 1016.89,-161.7 ; -1000.3,-171.33 ccw(c-949,-157.99) -949,-211 949,-211 ccw(c948.99,-158) 1000.52,-170.37 ; 1000,-171 1031,147 ; 1016,-169 1046,147 ; -1213,-301 -1213,-296 -1113,-296 -1113,-301 ; -1213,-301 -1113,-301 ; -1213,-301 -1298,-301 cw(c-1298,-276) -1323,-276 -1323,276 cw(c-1298,276) -1298,301 -1213,301 ; -1213,301 -1213,296 -1113,296 -1113,301 ; -1213,301 -1113,301 ; -1113,-301 1113,-301 ; -1113,301 1113,301 ; 1113,-301 1113,-296 1213,-296 1213,-301 ; 1113,-301 1213,-301 ; 1113,301 1113,296 1213,296 1213,301 ; 1113,301 1213,301 ; 1213,-301 1298,-301 ccw(c1298,-276) 1323,-276 1323,276 ccw(c1298,276) 1298,301 1213,301
  text "9" at -14,156 h60.45
  text "42" at -30,-194 h60.45
  text "17" at 856,156 h60.45
  text "16" at 746,156 h60.45
  text "15" at 641,156 h60.45
  text "14" at 531,156 h60.45
  text "13" at 421,156 h60.45
  text "12" at 311,156 h60.45
  text "11" at 206,156 h60.45
  text "10" at 96,156 h60.45
  text "8" at -134,156 h60.45
  text "7" at -239,156 h60.45
  text "6" at -349,156 h60.45
  text "5" at -459,156 h60.45
  text "4" at -572,157 h60.45
  text "3" at -682,157 h60.45
  text "2" at -792,157 h60.45
  text "1" at -902,157 h60.45
  text "18" at -932,-23 h60.45
  text "33" at 878,-18 h60.45
  text "34" at -895,-194 h60.45
  text "35" at -785,-194 h60.45
  text "36" at -680,-194 h60.45
  text "37" at -570,-194 h60.45
  text "38" at -460,-194 h60.45
  text "39" at -355,-194 h60.45
  text "40" at -245,-194 h60.45
  text "41" at -135,-194 h60.45
  text "43" at 80,-194 h60.45
  text "44" at 190,-194 h60.45
  text "45" at 293,-194 h60.45
  text "46" at 403,-194 h60.45
  text "47" at 518,-194 h60.45
  text "48" at 628,-194 h60.45
  text "49" at 733,-194 h60.45
  text "50" at 838,-194 h60.45
Mechanical 16:
  circle w16: c-109,112 r10
  circle w16: c-163,0 r10
  circle w16: c-217,112 r10
  circle w16: c0,112 r10
  circle w16: c-54,0 r10
  circle w16: c54,0 r10
  circle w16: c109,112 r10
  circle w16: c217,112 r10
  circle w16: c163,0 r10
  circle w16: c272,0 r10
  circle w16: c326,112 r10
  circle w16: c380,0 r10
  circle w16: c435,112 r10
  circle w16: c489,0 r10
  circle w16: c543,112 r10
  circle w16: c652,112 r10
  circle w16: c598,0 r10
  circle w16: c-326,112 r10
  circle w16: c-272,0 r10
  circle w16: c-380,0 r10
  circle w16: c-435,112 r10
  circle w16: c-543,112 r10
  circle w16: c-652,112 r10
  circle w16: c-489,0 r10
  circle w16: c-598,0 r10
  circle w16: c761,112 r10
  circle w16: c869,112 r10
  circle w16: c706,0 r10
  circle w16: c815,0 r10
  circle w16: c-761,112 r10
  circle w16: c-869,112 r10
  circle w16: c-706,0 r10
  circle w16: c-815,0 r10
  circle w16: c-109,-112 r10
  circle w16: c-217,-112 r10
  circle w16: c0,-112 r10
  circle w16: c109,-112 r10
  circle w16: c217,-112 r10
  circle w16: c326,-112 r10
  circle w16: c435,-112 r10
  circle w16: c543,-112 r10
  circle w16: c652,-112 r10
  circle w16: c-326,-112 r10
  circle w16: c-435,-112 r10
  circle w16: c-543,-112 r10
  circle w16: c-652,-112 r10
  circle w16: c761,-112 r10
  circle w16: c869,-112 r10
  circle w16: c-761,-112 r10
  circle w16: c-869,-112 r10
Via Holes:
  circle w0: c1203,0 r105
  circle w0: c-1203,0 r105

## M50VB [mil]
pads (50):
  oct 60x60 hole 40: 1(869,-112) 2(761,-112) 3(652,-112) 4(543,-112) 5(435,-112) 6(326,-112) 7(217,-112) 8(109,-112) 9(0,-112) 10(-109,-112) 11(-217,-112) 12(-326,-112) 13(-435,-112) 14(-543,-112) 15(-652,-112) 16(-761,-112) 17(-869,-112) 18(815,0) 19(706,0) 20(598,0) 21(489,0) 22(380,0) 23(272,0) 24(163,0) 25(54,0) 26(-54,0) 27(-163,0) 28(-272,0) 29(-380,0) 30(-489,0) 31(-598,0) 32(-706,0) 33(-815,0) 34(869,112) 35(761,112) 36(652,112) 37(543,112) 38(435,112) 39(326,112) 40(217,112) 41(109,112) 42(0,112) 43(-109,112) 44(-217,112) 45(-326,112) 46(-435,112) 47(-543,112) 48(-652,112) 49(-761,112) 50(-869,112)
Top Overlay:
  lines w6: -1046,-147 -1016,169 ; -1045.69,-144.67 ccw(c-979,-157.99) -979,-226 979,-226 ccw(c979,-158) 1045.68,-144.67 ; -1031,-147 -1000,171 ; -1030.79,-146.7 ccw(c-979,-157.99) -979,-211 979,-211 ccw(c979,-158) 1030.97,-147.61 ; -1016.89,161.7 cw(c-948.99,158) -949,226 949,226 cw(c949,158) 1016.4,166.99 ; -1000.52,170.37 cw(c-948.99,158) -949,211 949,211 cw(c949,157.99) 1000.3,171.33 ; 1000,172 1031,-148 ; 1015,172 1046,-148 ; -1213,-301 -1298,-301 cw(c-1298,-276) -1323,-276 -1323,276 cw(c-1298,276) -1298,301 -1213,301 ; -1213,-301 -1213,-296 -1113,-296 -1113,-301 ; -1213,-301 -1113,-301 ; -1213,301 -1113,301 ; -1213,301 -1213,296 -1113,296 -1113,301 ; -1113,-301 1113,-301 ; -1113,301 1113,301 ; 1113,-301 1113,-296 1213,-296 1213,-301 ; 1113,-301 1213,-301 ; 1113,301 1213,301 ; 1113,301 1113,296 1213,296 1213,301 ; 1213,-301 1298,-301 ccw(c1298,-276) 1323,-276 1323,276 ccw(c1298,276) 1298,301 1213,301
  text "9" at 14,-156 h60.45
  text "42" at 30,194 h60.45
  text "17" at -856,-156 h60.45
  text "16" at -746,-156 h60.45
  text "15" at -641,-156 h60.45
  text "14" at -531,-156 h60.45
  text "13" at -421,-156 h60.45
  text "12" at -311,-156 h60.45
  text "11" at -206,-156 h60.45
  text "10" at -96,-156 h60.45
  text "8" at 134,-156 h60.45
  text "7" at 239,-156 h60.45
  text "6" at 349,-156 h60.45
  text "5" at 459,-156 h60.45
  text "4" at 572,-157 h60.45
  text "3" at 682,-157 h60.45
  text "2" at 792,-157 h60.45
  text "1" at 902,-157 h60.45
  text "18" at 932,23 h60.45
  text "33" at -878,18 h60.45
  text "34" at 895,194 h60.45
  text "35" at 785,194 h60.45
  text "36" at 680,194 h60.45
  text "37" at 570,194 h60.45
  text "38" at 460,194 h60.45
  text "39" at 355,194 h60.45
  text "40" at 245,194 h60.45
  text "41" at 135,194 h60.45
  text "43" at -80,194 h60.45
  text "44" at -190,194 h60.45
  text "45" at -293,194 h60.45
  text "46" at -403,194 h60.45
  text "47" at -518,194 h60.45
  text "48" at -628,194 h60.45
  text "49" at -733,194 h60.45
  text "50" at -838,194 h60.45
Mechanical 16:
  circle w16: c109,-112 r10
  circle w16: c163,0 r10
  circle w16: c217,-112 r10
  circle w16: c0,-112 r10
  circle w16: c54,0 r10
  circle w16: c-54,0 r10
  circle w16: c-109,-112 r10
  circle w16: c-217,-112 r10
  circle w16: c-163,0 r10
  circle w16: c-272,0 r10
  circle w16: c-326,-112 r10
  circle w16: c-380,0 r10
  circle w16: c-435,-112 r10
  circle w16: c-489,0 r10
  circle w16: c-543,-112 r10
  circle w16: c-652,-112 r10
  circle w16: c-598,0 r10
  circle w16: c326,-112 r10
  circle w16: c272,0 r10
  circle w16: c380,0 r10
  circle w16: c435,-112 r10
  circle w16: c543,-112 r10
  circle w16: c652,-112 r10
  circle w16: c489,0 r10
  circle w16: c598,0 r10
  circle w16: c-761,-112 r10
  circle w16: c-869,-112 r10
  circle w16: c-706,0 r10
  circle w16: c-815,0 r10
  circle w16: c761,-112 r10
  circle w16: c869,-112 r10
  circle w16: c706,0 r10
  circle w16: c815,0 r10
  circle w16: c109,112 r10
  circle w16: c217,112 r10
  circle w16: c0,112 r10
  circle w16: c-109,112 r10
  circle w16: c-217,112 r10
  circle w16: c-326,112 r10
  circle w16: c-435,112 r10
  circle w16: c-543,112 r10
  circle w16: c-652,112 r10
  circle w16: c326,112 r10
  circle w16: c435,112 r10
  circle w16: c543,112 r10
  circle w16: c652,112 r10
  circle w16: c-761,112 r10
  circle w16: c-869,112 r10
  circle w16: c761,112 r10
  circle w16: c869,112 r10

## M50VP [mil]
pads (52):
  oct 60x60 hole 40: 1(-869,112) 2(-761,112) 3(-652,112) 4(-543,112) 5(-435,112) 6(-326,112) 7(-217,112) 8(-109,112) 9(0,112) 10(109,112) 11(217,112) 12(326,112) 13(435,112) 14(543,112) 15(652,112) 16(761,112) 17(869,112) 18(-815,0) 19(-706,0) 20(-598,0) 21(-489,0) 22(-380,0) 23(-272,0) 24(-163,0) 25(-54,0) 26(54,0) 27(163,0) 28(272,0) 29(380,0) 30(489,0) 31(598,0) 32(706,0) 33(815,0) 34(-869,-112) 35(-761,-112) 36(-652,-112) 37(-543,-112) 38(-435,-112) 39(-326,-112) 40(-217,-112) 41(-109,-112) 42(0,-112) 43(109,-112) 44(217,-112) 45(326,-112) 46(435,-112) 47(543,-112) 48(652,-112) 49(761,-112) 50(869,-112)
  round 200 hole 130: G1(-1203,0) G2(1203,0)
Top Overlay:
  circle w6: c-1203,0 r65
  circle w6: c1203,0 r65
  lines w6: -1046,148 -1015,-172 ; -1045.68,144.67 cw(c-979,158) -979,226 979,226 cw(c979,157.99) 1045.69,144.67 ; -1031,148 -1000,-172 ; -1030.97,147.61 cw(c-979,158) -979,211 979,211 cw(c979,157.99) 1030.79,146.7 ; -1016.4,-166.99 ccw(c-949,-158) -949,-226 949,-226 ccw(c948.99,-158) 1016.89,-161.7 ; -1000.3,-171.33 ccw(c-949,-157.99) -949,-211 949,-211 ccw(c948.99,-158) 1000.52,-170.37 ; 1000,-171 1031,147 ; 1016,-169 1046,147 ; -1213,-301 -1213,-296 -1113,-296 -1113,-301 ; -1213,-301 -1113,-301 ; -1213,-301 -1298,-301 cw(c-1298,-276) -1323,-276 -1323,276 cw(c-1298,276) -1298,301 -1213,301 ; -1213,301 -1213,296 -1113,296 -1113,301 ; -1213,301 -1113,301 ; -1113,-301 1113,-301 ; -1113,301 1113,301 ; 1113,-301 1113,-296 1213,-296 1213,-301 ; 1113,-301 1213,-301 ; 1113,301 1113,296 1213,296 1213,301 ; 1113,301 1213,301 ; 1213,-301 1298,-301 ccw(c1298,-276) 1323,-276 1323,276 ccw(c1298,276) 1298,301 1213,301
  text "9" at -14,156 h60.45
  text "42" at -30,-194 h60.45
  text "17" at 856,156 h60.45
  text "16" at 746,156 h60.45
  text "15" at 641,156 h60.45
  text "14" at 531,156 h60.45
  text "13" at 421,156 h60.45
  text "12" at 311,156 h60.45
  text "11" at 206,156 h60.45
  text "10" at 96,156 h60.45
  text "8" at -134,156 h60.45
  text "7" at -239,156 h60.45
  text "6" at -349,156 h60.45
  text "5" at -459,156 h60.45
  text "4" at -572,157 h60.45
  text "3" at -682,157 h60.45
  text "2" at -792,157 h60.45
  text "1" at -902,157 h60.45
  text "18" at -932,-23 h60.45
  text "33" at 878,-18 h60.45
  text "34" at -895,-194 h60.45
  text "35" at -785,-194 h60.45
  text "36" at -680,-194 h60.45
  text "37" at -570,-194 h60.45
  text "38" at -460,-194 h60.45
  text "39" at -355,-194 h60.45
  text "40" at -245,-194 h60.45
  text "41" at -135,-194 h60.45
  text "43" at 80,-194 h60.45
  text "44" at 190,-194 h60.45
  text "45" at 293,-194 h60.45
  text "46" at 403,-194 h60.45
  text "47" at 518,-194 h60.45
  text "48" at 628,-194 h60.45
  text "49" at 733,-194 h60.45
  text "50" at 838,-194 h60.45
Mechanical 16:
  circle w16: c-109,112 r10
  circle w16: c-163,0 r10
  circle w16: c-217,112 r10
  circle w16: c0,112 r10
  circle w16: c-54,0 r10
  circle w16: c54,0 r10
  circle w16: c109,112 r10
  circle w16: c217,112 r10
  circle w16: c163,0 r10
  circle w16: c272,0 r10
  circle w16: c326,112 r10
  circle w16: c380,0 r10
  circle w16: c435,112 r10
  circle w16: c489,0 r10
  circle w16: c543,112 r10
  circle w16: c652,112 r10
  circle w16: c598,0 r10
  circle w16: c-326,112 r10
  circle w16: c-272,0 r10
  circle w16: c-380,0 r10
  circle w16: c-435,112 r10
  circle w16: c-543,112 r10
  circle w16: c-652,112 r10
  circle w16: c-489,0 r10
  circle w16: c-598,0 r10
  circle w16: c761,112 r10
  circle w16: c869,112 r10
  circle w16: c706,0 r10
  circle w16: c815,0 r10
  circle w16: c-761,112 r10
  circle w16: c-869,112 r10
  circle w16: c-706,0 r10
  circle w16: c-815,0 r10
  circle w16: c-109,-112 r10
  circle w16: c-217,-112 r10
  circle w16: c0,-112 r10
  circle w16: c109,-112 r10
  circle w16: c217,-112 r10
  circle w16: c326,-112 r10
  circle w16: c435,-112 r10
  circle w16: c543,-112 r10
  circle w16: c652,-112 r10
  circle w16: c-326,-112 r10
  circle w16: c-435,-112 r10
  circle w16: c-543,-112 r10
  circle w16: c-652,-112 r10
  circle w16: c761,-112 r10
  circle w16: c869,-112 r10
  circle w16: c-761,-112 r10
  circle w16: c-869,-112 r10